# Altium schematic symbol library UC383_5_Throughole_Regulator.SchLib: 1 symbol
Pins are listed as number, name and electrical type; pins without a type are passive.

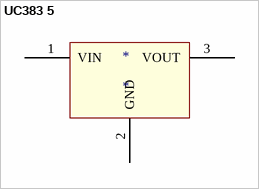
[diagram p0: symbol UC383 5]

## UC383 5
designator *
pins: 1 VIN, 2 GND, 3 VOUT